# EAGLE library part BB-SWN-C-1-HW_MODULE (library BB-SWN-C-1-HW_MODULE)
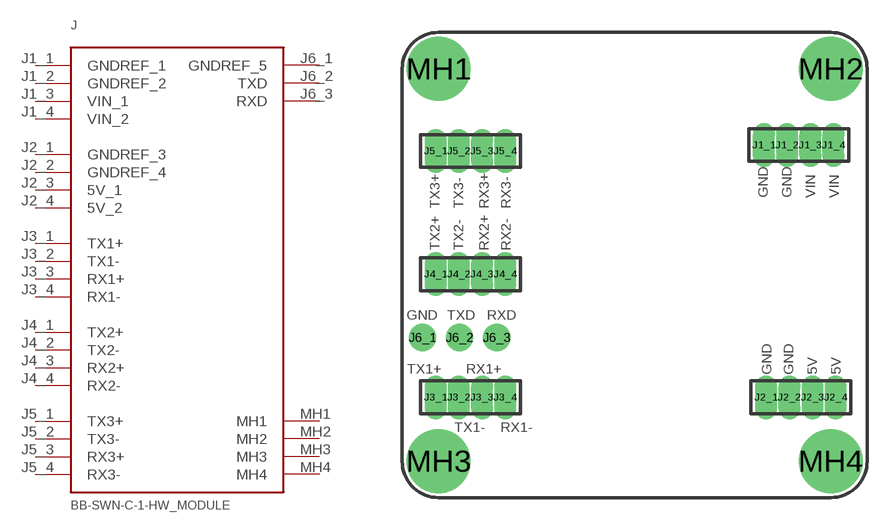
[diagram p0: symbol with the pads of BB-SWN-C-1-HW_MODULE; footprint BB-SWN-C-1-HW_MODULE]

Designator prefix J

## BB-SWN-C-1-HW_MODULE  [BB-SWN-C-1-HW_MODULE]
J1_1  GNDREF_1  pwr
J1_2  GNDREF_2  pwr
J1_3  VIN_1  pwr
J1_4  VIN_2  pwr
J2_1  GNDREF_3
J2_2  GNDREF_4
J2_3  5V_1  pwr
J2_4  5V_2  pwr
J3_1  TX1+
J3_2  TX1-
J3_3  RX1+
J3_4  RX1-
J4_1  TX2+
J4_2  TX2-
J4_3  RX2+
J4_4  RX2-
J5_1  TX3+
J5_2  TX3-
J5_3  RX3+
J5_4  RX3-
J6_1  GNDREF_5
J6_2  TXD
J6_3  RXD
MH1  MH1
MH2  MH2
MH3  MH3
MH4  MH4

## Footprint BB-SWN-C-1-HW_MODULE (pad centres in mm)
drill 0.7 pad 1 long: J1_1 7.095,6.574; J1_2 8.365,6.574; J1_3 9.635,6.574; J1_4 10.905,6.574; J2_1 7.22,-7.25; J2_2 8.49,-7.25; J2_3 9.76,-7.25; J2_4 11.03,-7.25; J3_1 -10.905,-7.25; J3_2 -9.635,-7.25; J3_3 -8.365,-7.25; J3_4 -7.095,-7.25; J4_1 -10.905,-0.5; J4_2 -9.635,-0.5; J4_3 -8.365,-0.5; J4_4 -7.095,-0.5; J5_1 -10.905,6.25; J5_2 -9.635,6.25; J5_3 -8.365,6.25; J5_4 -7.095,6.25
drill 0.7 pad 1.5: J6_1 -11.634,-3.972; J6_2 -9.602,-3.972; J6_3 -7.57,-3.972
drill 2.2 pad 3.5: MH1 -10.75,10.75; MH2 10.75,10.75; MH3 -10.75,-10.75; MH4 10.75,-10.75